# EAGLE library part 68800611622 (library Wuerth_Elektronik_eiCan_Wire_to_Board_Connectors v1.2)
WR-WTB 2.50mm "J" Type Vertical Male Shrouded Header, 6 Pins
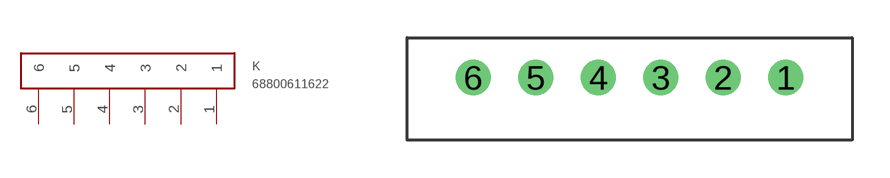
[diagram p13: symbol with the pads of 68800611622; footprint 68800611622]

Designator prefix K

## 68800611622  [68800611622]
1  1
2  2
3  3
4  4
5  5
6  6

## Footprint 68800611622 (pad centres in mm)
WR-WTB 2.50mm "J" Type Vertical Male Shrouded Header, 6 Pins
drill 0.9 round: 1 1.25,0; 2 -1.25,0; 3 -3.75,0; 4 -6.25,0; 5 -8.75,0; 6 -11.25,0